# Altium schematic symbol library MCUstm32f479vi.SchLib: 2 symbols
Pins are listed as number, name and electrical type; pins without a type are passive.

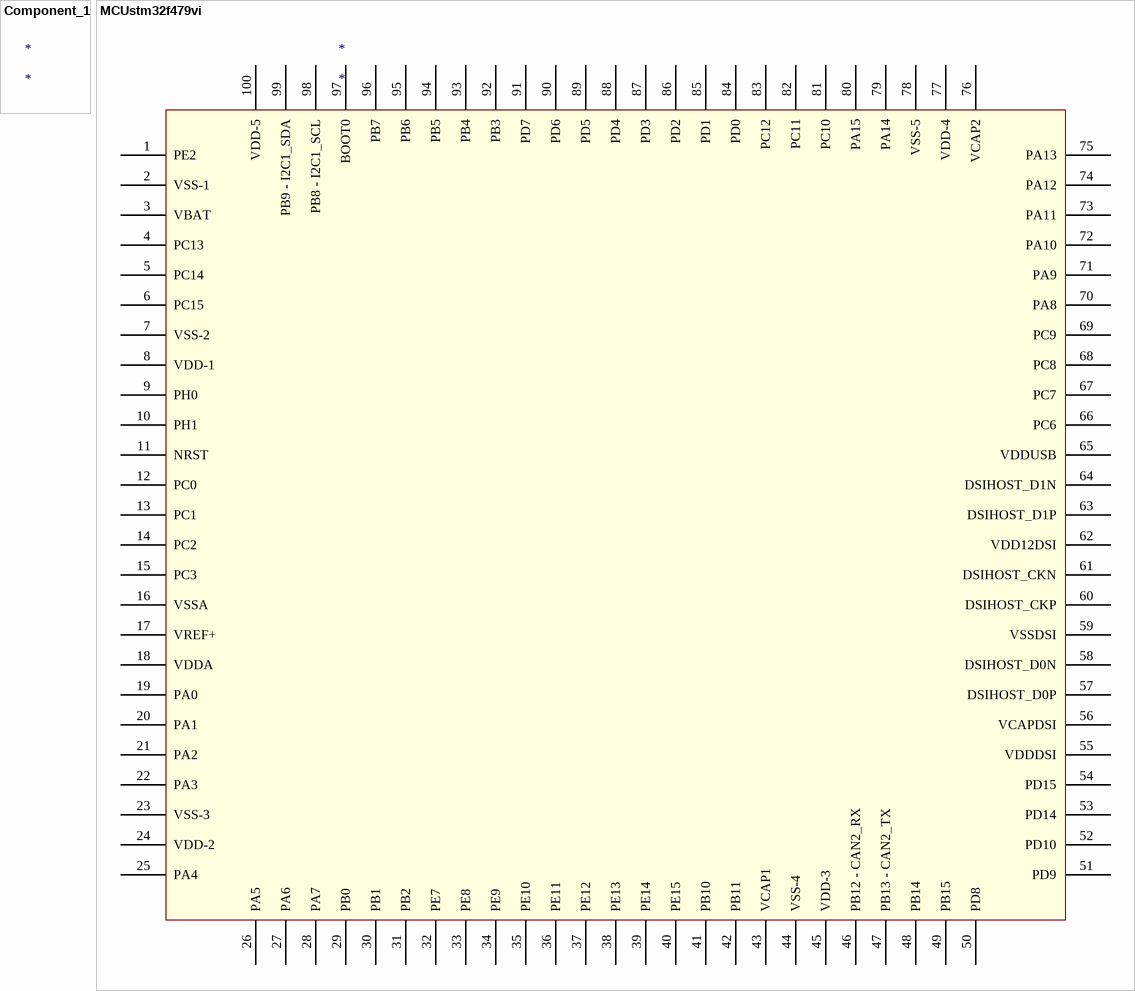
[diagram p0: symbols Component_1 to MCUstm32f479vi]

## Component_1
designator *

## MCUstm32f479vi
designator *
pins: 1 PE2, 2 VSS-1, 3 VBAT, 4 PC13, 5 PC14, 6 PC15, 7 VSS-2, 8 VDD-1, 9 PH0, 10 PH1, 11 NRST, 12 PC0, 13 PC1, 14 PC2, 15 PC3, 16 VSSA, 17 VREF+, 18 VDDA, 19 PA0, 20 PA1, 21 PA2, 22 PA3, 23 VSS-3, 24 VDD-2, 25 PA4, 26 PA5, 27 PA6, 28 PA7, 29 PB0, 30 PB1, 31 PB2, 32 PE7, 33 PE8, 34 PE9, 35 PE10, 36 PE11, 37 PE12, 38 PE13, 39 PE14, 40 PE15, 41 PB10, 42 PB11, 43 VCAP1, 44 VSS-4, 45 VDD-3, 46 PB12 - CAN2_RX, 47 PB13 - CAN2_TX, 48 PB14, 49 PB15, 50 PD8, 51 PD9, 52 PD10, 53 PD14, 54 PD15, 55 VDDDSI, 56 VCAPDSI, 57 DSIHOST_D0P, 58 DSIHOST_D0N, 59 VSSDSI, 60 DSIHOST_CKP, 61 DSIHOST_CKN, 62 VDD12DSI, 63 DSIHOST_D1P, 64 DSIHOST_D1N, 65 VDDUSB, 66 PC6, 67 PC7, 68 PC8, 69 PC9, 70 PA8, 71 PA9, 72 PA10, 73 PA11, 74 PA12, 75 PA13, 76 VCAP2, 77 VDD-4, 78 VSS-5, 79 PA14, 80 PA15, 81 PC10, 82 PC11, 83 PC12, 84 PD0, 85 PD1, 86 PD2, 87 PD3, 88 PD4, 89 PD5, 90 PD6, 91 PD7, 92 PB3, 93 PB4, 94 PB5, 95 PB6, 96 PB7, 97 BOOT0, 98 PB8 - I2C1_SCL, 99 PB9 - I2C1_SDA, 100 VDD-5